# Altium schematic symbol library uw.SCHLIB: 4 symbols
Pins are listed as number, name and electrical type; pins without a type are passive.

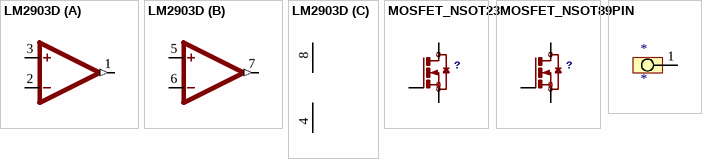
[diagram p0: symbols LM2903D to PIN]

## LM2903D
designator IC?, comment COMPARATOR  (value not drawn)
footprint SO08
part A pins: 1 OUT (out), 2 -IN, 3 +IN
part B pins: 5 +IN, 6 -IN, 7 OUT (out)
part C pins: 4 V- (power), 8 V+ (power)

## MOSFET_NSOT23
designator ?
footprint SOT23
pins: 1 G, 2 S, 3 D

## MOSFET_NSOT89
designator ?
footprint SOT89
pins: 1 G, 2 D, 3 S

## PIN
designator *
pins: 1 IO (hiz)